# EAGLE library part ATMEGA328PB (library Semiconductors > Embedded Processors & Controllers > Microcontrollers - MCU)
The picoPower® ATmega328PB is a low-power CMOS 8-bit microcontroller based on the AVR® enhanced RISC architecture. By executing powerful instructions in a single clock cycle, the ATmega328PB achieves throughputs close to 1MIPS per MHz. This empowers system designers to optimize the device for power consumption versus processing speed.
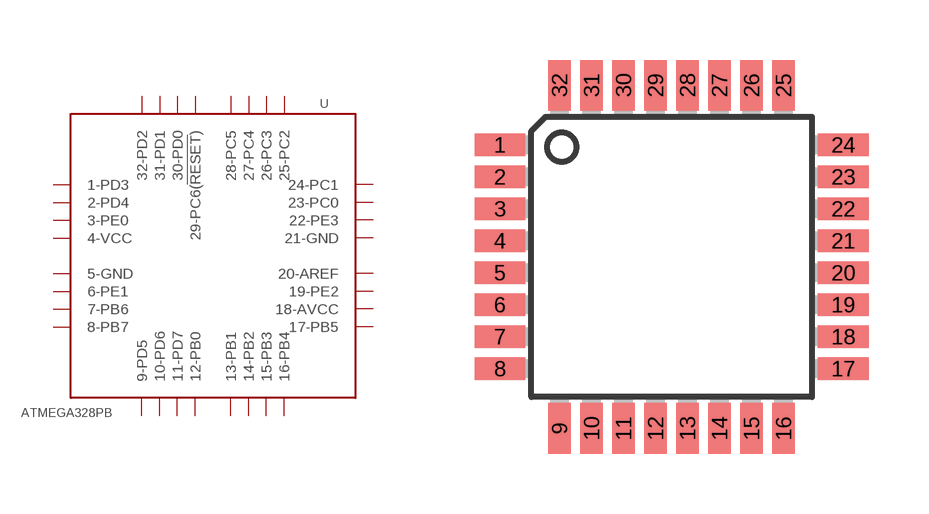
[diagram p0: symbol with the pads of TQFP32-08; footprint TQFP32-08]

Designator prefix U

## ATMEGA328PB  [TQFP32-08]
1  1-PD3
2  2-PD4
3  3-PE0
4  4-VCC
5  5-GND
6  6-PE1
7  7-PB6
8  8-PB7
9  9-PD5
10  10-PD6
11  11-PD7
12  12-PB0
13  13-PB1
14  14-PB2
15  15-PB3
16  16-PB4
17  17-PB5
18  18-AVCC
19  19-PE2
20  20-AREF
21  21-GND
22  22-PE3
23  23-PC0
24  24-PC1
25  25-PC2
26  26-PC3
27  27-PC4
28  28-PC5
29  29-PC6(!RESET!)
30  30-PD0
31  31-PD1
32  32-PD2

## Footprint TQFP32-08 (pad centres in mm)
Thin Plasic Quad Flat Package Grid 0.8 mm
smd 1.27 x 0.559: 1 -4.293,2.8; 2 -4.293,2; 3 -4.293,1.2; 4 -4.293,0.4; 5 -4.293,-0.4; 6 -4.293,-1.2; 7 -4.293,-2; 8 -4.293,-2.8; 17 4.293,-2.8; 18 4.293,-2; 19 4.293,-1.2; 20 4.293,-0.4; 21 4.293,0.4; 22 4.293,1.2; 23 4.293,2; 24 4.293,2.8
smd 0.559 x 1.27: 9 -2.8,-4.293; 10 -2,-4.293; 11 -1.2,-4.293; 12 -0.4,-4.293; 13 0.4,-4.293; 14 1.2,-4.293; 15 2,-4.293; 16 2.8,-4.293; 25 2.8,4.293; 26 2,4.293; 27 1.2,4.293; 28 0.4,4.293; 29 -0.4,4.293; 30 -1.2,4.293; 31 -2,4.293; 32 -2.8,4.293